# EAGLE library part TPS54561 (library My_TI)
TPS54561 4.5-V to 60-V Input, 5-A, Step-Down DC-DC Converter With Eco-mode™ • 100-kHz to 2.5-MHz Switching Frequency. • Synchronizes to External Clock . Datasheet <http://www.ti.com/lit/ds/symlink/tps54561-q1.pdf>
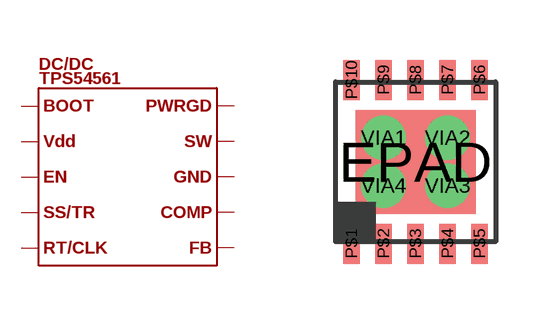
[diagram p60: symbol with the pads of PWSON10_4X4; footprint PWSON10_4X4]

Designator prefix DC/DC

## TPS54561  [PWSON10_4X4]
P$1  P$1
P$2  P$2
P$3  P$3
P$4  P$4
P$5  P$5
P$6  P$6
P$7  P$7
P$8  P$8
P$9  P$9
P$10  P$10

## Footprint PWSON10_4X4 (pad centres in mm)
smd 3 x 2.6: EPAD 0,0
smd 0.42 x 1: P$1 -1.6,-2.05; P$2 -0.8,-2.05; P$3 0,-2.05; P$4 0.8,-2.05; P$5 1.6,-2.05; P$6 1.6,2.05; P$7 0.8,2.05; P$8 0,2.05; P$9 -0.8,2.05; P$10 -1.6,2.05
drill 0.6: VIA1 -0.8,0.6; VIA2 0.8,0.6; VIA3 0.8,-0.6; VIA4 -0.8,-0.6